# EAGLE library part 3220_10_0300_00 (library ds_con)
Connector Header Surface Mount 10 position 0.050" (1.27mm)
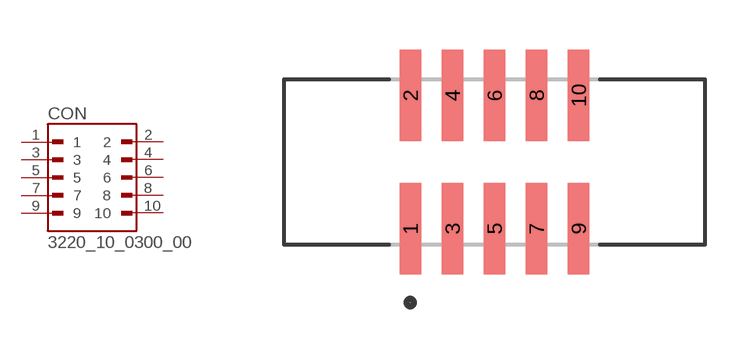
[diagram p1: symbol with the pads of 3220_10_0300_00; footprint 3220_10_0300_00]

Designator prefix CON

## 3220_10_0300_00 (DATASHEET: https://www.cnctech.us/pdfs/3220-XX-0300-00_.pdf; MANUFACTURER: CNC Tech; MPN: 3220-10-0300-00; ROHS: YES)  [3220_10_0300_00]
1  1  pas
2  2  pas
3  3  pas
4  4  pas
5  5  pas
6  6  pas
7  7  pas
8  8  pas
9  9  pas
10  10  pas

## Footprint 3220_10_0300_00 (pad centres in mm)
smd 0.65 x 2.77: 1 -2.54,-2.015; 2 -2.54,2.015; 3 -1.27,-2.015; 4 -1.27,2.015; 5 0,-2.015; 6 0,2.015; 7 1.27,-2.015; 8 1.27,2.015; 9 2.54,-2.015; 10 2.54,2.015